# Altium schematic symbol library BFP720ESD.SchLib: 1 symbol
Pins are listed as number, name and electrical type; pins without a type are passive.

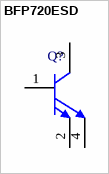
[diagram p0: symbol BFP720ESD]

## BFP720ESD
designator Q?
Robust High Performance Low Noise Bipolar RF Transistor, 4.2 V VCEO, 25 mA IC, 27 dB Gmax, SOT343, Green; Manufacturer: Infineon; PartNumber: BFP720ESD; Gmax (typ): 27 dB; Green: yes; Group: Robust ultra low noise SiGe; IC (max): 25 mA; NFmin (typ): 0.6 dB; Ptot (max): 100 mW; VCEO (max): 4.2 V; DatasheetVersion: Rev. 1.0; PackageReference: SOT343; PackageDescription: 4-Pin Small Outline Transistor Package, 1.25 x 2 mm Body; Halogen-free: yes; Mounting Technology: Surface Mount; ComponentLink1Description: Manufacturer URL; ComponentLink1URL: http://www.infineon.com/; ComponentLink2Description: Datasheet; ComponentLink2URL: http://www.infineon.com/dgdl/bfp720esd.pdf?folderId=db3a30431f848401011fcbf2ab4c04c4&fileId=db3a30432968c552012991dcedf054a7&location=en.Products.RF.RF_Transistors_.Ultra_Low_Noise_SiGe_C_Transistors_for_use_up_to_12_GHz.DATASHEET.bfp720esd.pdf; ComponentLink3Description: Package Specification; ComponentLink3URL: http://www.infineon.com/dgdl/SOT343-Package_Overview.pdf?folderId=db3a30431936bc4b0119535155343cba&fileId=db3a30431936bc4b0119535a9f393cd3
footprint INF-SOT343_V (SOT343, 4-Leads, Body 2x1.25 mm)
pins: 1 B, 2 E, 3 C, 4 E